# EAGLE library part AT24MAC (library borkedlabs-memory)
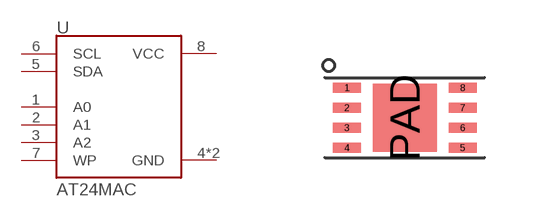
[diagram p0: symbol with the pads of UDFN8; footprint UDFN8]

Designator prefix U

## AT24MAC402-MAHM (MPN: AT24MAC402-MAHM; PACKAGE: UDFN8)  [UDFN8]
1  A0
2  A1
3  A2
4  GND
5  SDA
6  SCL
7  WP
8  VCC
PAD  GND

## AT24MAC602-MAHM (MPN: ATMAC602-MAHM; PACKAGE: UDFN8)  [UDFN8]
Pads as for UDFN8

## Footprint UDFN8 (pad centres in mm)
smd 0.7 x 0.25: 1 -1.45,0.75; 2 -1.45,0.25; 3 -1.45,-0.25; 4 -1.45,-0.75; 5 1.45,-0.75; 6 1.45,-0.25; 7 1.45,0.25; 8 1.45,0.75
smd 1.6 x 1.7: PAD 0,0